# Altium footprint library WS-SLSV.PcbLib: 1 footprints
Each footprint in its own frame and in the unit in brackets; x right, y up, seen from the top. Pads: shape width x height; smd on the part's side, far side on the other; paste and mask are expansions set on the pad; w line width, h text height; cw(c..) or ccw(c..) is an arc to the next point about the centre after c.
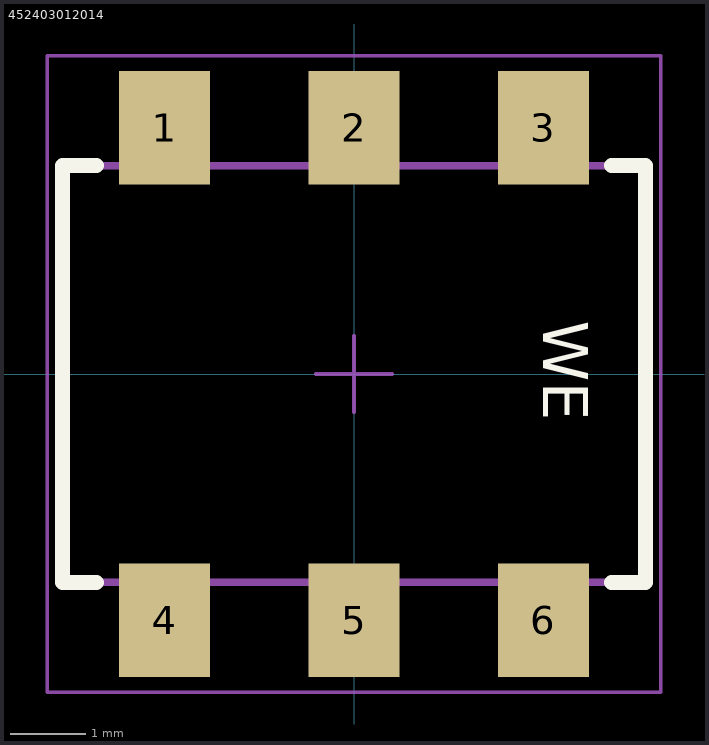
[diagram p0: the footprint, top view; thin cyan lines are the x and y axes]

## 452403012014 [mm] "SMT Mini Slide Switch, Same Side Connection"
height 3.3
pads (6):
  rect 1.2x1.5 smd: 1(-2.5,3.25) 2(0,3.25) 3(2.5,3.25) 4(-2.5,-3.25) 5(0,-3.25) 6(2.5,-3.25)
Top Overlay:
  lines w0.2: -3.4,-2.75 -3.85,-2.75 -3.85,2.75 -3.4,2.75 ; 3.4,-2.75 3.85,-2.75 3.85,2.75 3.4,2.75
  text "WE" at 2.3,0.7 h1.02
Top Designator:
  text ".Designator" at -7.498,-0.5 h1.5
Top Component Outline:
  lines w0.1: -2.8,-2.75 -2.8,-3.75 -2.2,-3.75 -2.2,-2.75 ; -2.8,2.75 -2.8,3.75 -2.2,3.75 -2.2,2.75 ; -0.3,-2.75 -0.3,-3.75 0.3,-3.75 0.3,-2.75 ; -0.3,2.75 -0.3,3.75 0.3,3.75 0.3,2.75 ; 2.2,-2.75 2.2,-3.75 2.8,-3.75 2.8,-2.75 ; 2.2,2.75 2.2,3.75 2.8,3.75 2.8,2.75 ; -3.85,-2.75 3.85,-2.75 3.85,2.75 -3.85,2.75 -3.85,-2.75
  text "WE" at 2.3,0.7 h1.02
Top Courtyard:
  lines w0.05: -0.5,0 0.5,0 ; 0,-0.5 0,0.5 ; -4.05,-4.2 -4.05,4.2 4.05,4.2 4.05,-4.2 -4.05,-4.2
3D body "452403012014.stp": height 3.48, standoff 0, extent -3.85,-3.75 3.85,3.75